# EAGLE library part FEATHERWING (library bschulz)
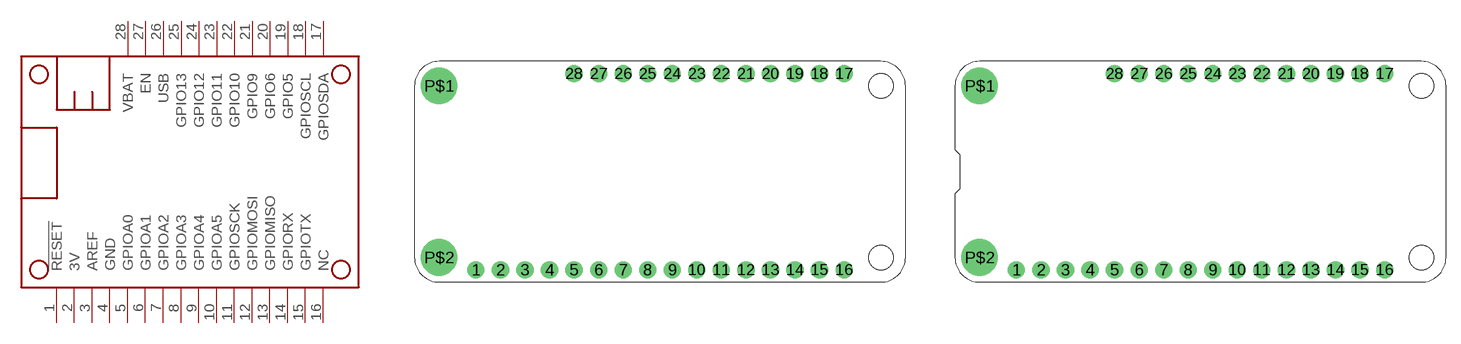
[diagram p77: symbol with the pads of FEATHERWING; footprints FEATHERWING, FEATHERWING_DIM]

Designator prefix MS

## FEATHERWING  [FEATHERWING]
1  !RESET  in
2  3V  sup
3  AREF  pas
4  GND  pwr
5  GPIOA0
6  GPIOA1
7  GPIOA2
8  GPIOA3
9  GPIOA4
10  GPIOA5
11  GPIOSCK
12  GPIOMOSI
13  GPIOMISO
14  GPIORX
15  GPIOTX
16  NC  pas
17  GPIOSDA
18  GPIOSCL
19  GPIO5
20  GPIO6
21  GPIO9
22  GPIO10
23  GPIO11
24  GPIO12
25  GPIO13
26  USB  sup
27  EN  pas
28  VBAT  sup

## FEATHERWING_NODIM  [FEATHERWING_DIM]
Pads as for FEATHERWING

## FEATHERWINGLAYOUT  [FEATHERWING_MIN]
Pads as for FEATHERWING

## FEATHERWING_SMD  [FEATHER_SMD]
Pads as for FEATHERWING

## FEATHERWING_SMD_LAYOUT  [FEATHER_SMD_MIN]
Pads as for FEATHERWING

## Footprint FEATHERWING (pad centres in mm)
drill 1 pad 1.778: 1 6.35,1.27; 2 8.89,1.27; 3 11.43,1.27; 4 13.97,1.27; 5 16.51,1.27; 6 19.05,1.27; 7 21.59,1.27; 8 24.13,1.27; 9 26.67,1.27; 10 29.21,1.27; 11 31.75,1.27; 12 34.29,1.27; 13 36.83,1.27; 14 39.37,1.27; 15 41.91,1.27; 16 44.45,1.27; 17 44.45,21.59; 18 41.91,21.59; 19 39.37,21.59; 20 36.83,21.59; 21 34.29,21.59; 22 31.75,21.59; 23 29.21,21.59; 24 26.67,21.59; 25 24.13,21.59; 26 21.59,21.59; 27 19.05,21.59; 28 16.51,21.59
drill 2.5 pad 3.81: P$1 2.54,20.32; P$2 2.54,2.54
hole 2.54 at 48.26,20.32
hole 2.54 at 48.26,2.54

## Footprint FEATHERWING_DIM (pad centres in mm)
drill 1 pad 1.778: 1 6.35,1.27; 2 8.89,1.27; 3 11.43,1.27; 4 13.97,1.27; 5 16.51,1.27; 6 19.05,1.27; 7 21.59,1.27; 8 24.13,1.27; 9 26.67,1.27; 10 29.21,1.27; 11 31.75,1.27; 12 34.29,1.27; 13 36.83,1.27; 14 39.37,1.27; 15 41.91,1.27; 16 44.45,1.27; 17 44.45,21.59; 18 41.91,21.59; 19 39.37,21.59; 20 36.83,21.59; 21 34.29,21.59; 22 31.75,21.59; 23 29.21,21.59; 24 26.67,21.59; 25 24.13,21.59; 26 21.59,21.59; 27 19.05,21.59; 28 16.51,21.59
drill 2.5 pad 3.81: P$1 2.54,20.32; P$2 2.54,2.54
hole 2.54 at 48.26,20.32
hole 2.54 at 48.26,2.54

## Footprint FEATHERWING_MIN (pad centres in mm)
drill 1 pad 1.778: 1 6.35,1.27; 2 8.89,1.27; 3 11.43,1.27; 4 13.97,1.27; 5 16.51,1.27; 6 19.05,1.27; 7 21.59,1.27; 8 24.13,1.27; 9 26.67,1.27; 10 29.21,1.27; 11 31.75,1.27; 12 34.29,1.27; 13 36.83,1.27; 14 39.37,1.27; 15 41.91,1.27; 16 44.45,1.27; 17 44.45,21.59; 18 41.91,21.59; 19 39.37,21.59; 20 36.83,21.59; 21 34.29,21.59; 22 31.75,21.59; 23 29.21,21.59; 24 26.67,21.59; 25 24.13,21.59; 26 21.59,21.59; 27 19.05,21.59; 28 16.51,21.59

## Footprint FEATHER_SMD (pad centres in mm)
SMD plug to be inserted into Feather form-factor socket Datasheet <https://www.te.com/commerce/DocumentDelivery/DDEController?Action=showdoc&DocId=Customer+Drawing%7F1241150%7FD1%7Fpdf%7FEnglish%7FENG_CD_1241150_D1.pdf%7F1-1241150-2>
smd 1.27 x 3.4 bottom: 1 -26.67,-8.76; 2 -24.13,-11.56; 3 -21.59,-8.76; 4 -19.05,-11.56; 5 -16.51,-8.76; 6 -13.97,-11.56; 7 -11.43,-8.76; 8 -8.89,-11.56; 9 -6.35,-8.76; 10 -3.81,-11.56; 11 -1.27,-8.76; 12 1.27,-11.56; 13 3.81,-8.76; 14 6.35,-11.56; 15 8.89,-8.76; 16 11.43,-11.56; 17 11.43,8.76; 18 8.89,11.56; 19 6.35,8.76; 20 3.81,11.56; 21 1.27,8.76; 22 -1.27,11.56; 23 -3.81,8.76; 24 -6.35,11.56; 25 -8.89,8.76; 26 -11.43,11.56; 27 -13.97,8.76; 28 -16.51,11.56
hole 2.54 at -30.48,8.89
hole 2.54 at -30.48,-8.89
hole 2.54 at 15.24,-8.89
hole 2.54 at 15.24,8.89

## Footprint FEATHER_SMD_MIN (pad centres in mm)
SMD plug to be inserted into Feather form-factor socket Datasheet <https://www.te.com/commerce/DocumentDelivery/DDEController?Action=showdoc&DocId=Customer+Drawing%7F1241150%7FD1%7Fpdf%7FEnglish%7FENG_CD_1241150_D1.pdf%7F1-1241150-2>
smd 1.27 x 3.4 bottom: 1 -26.67,-8.76; 2 -24.13,-11.56; 3 -21.59,-8.76; 4 -19.05,-11.56; 5 -16.51,-8.76; 6 -13.97,-11.56; 7 -11.43,-8.76; 8 -8.89,-11.56; 9 -6.35,-8.76; 10 -3.81,-11.56; 11 -1.27,-8.76; 12 1.27,-11.56; 13 3.81,-8.76; 14 6.35,-11.56; 15 8.89,-8.76; 16 11.43,-11.56; 17 11.43,8.76; 18 8.89,11.56; 19 6.35,8.76; 20 3.81,11.56; 21 1.27,8.76; 22 -1.27,11.56; 23 -3.81,8.76; 24 -6.35,11.56; 25 -8.89,8.76; 26 -11.43,11.56; 27 -13.97,8.76; 28 -16.51,11.56